# Altium schematic symbol library CSC.schlib: 11 symbols
Pins are listed as number, name and electrical type; pins without a type are passive.

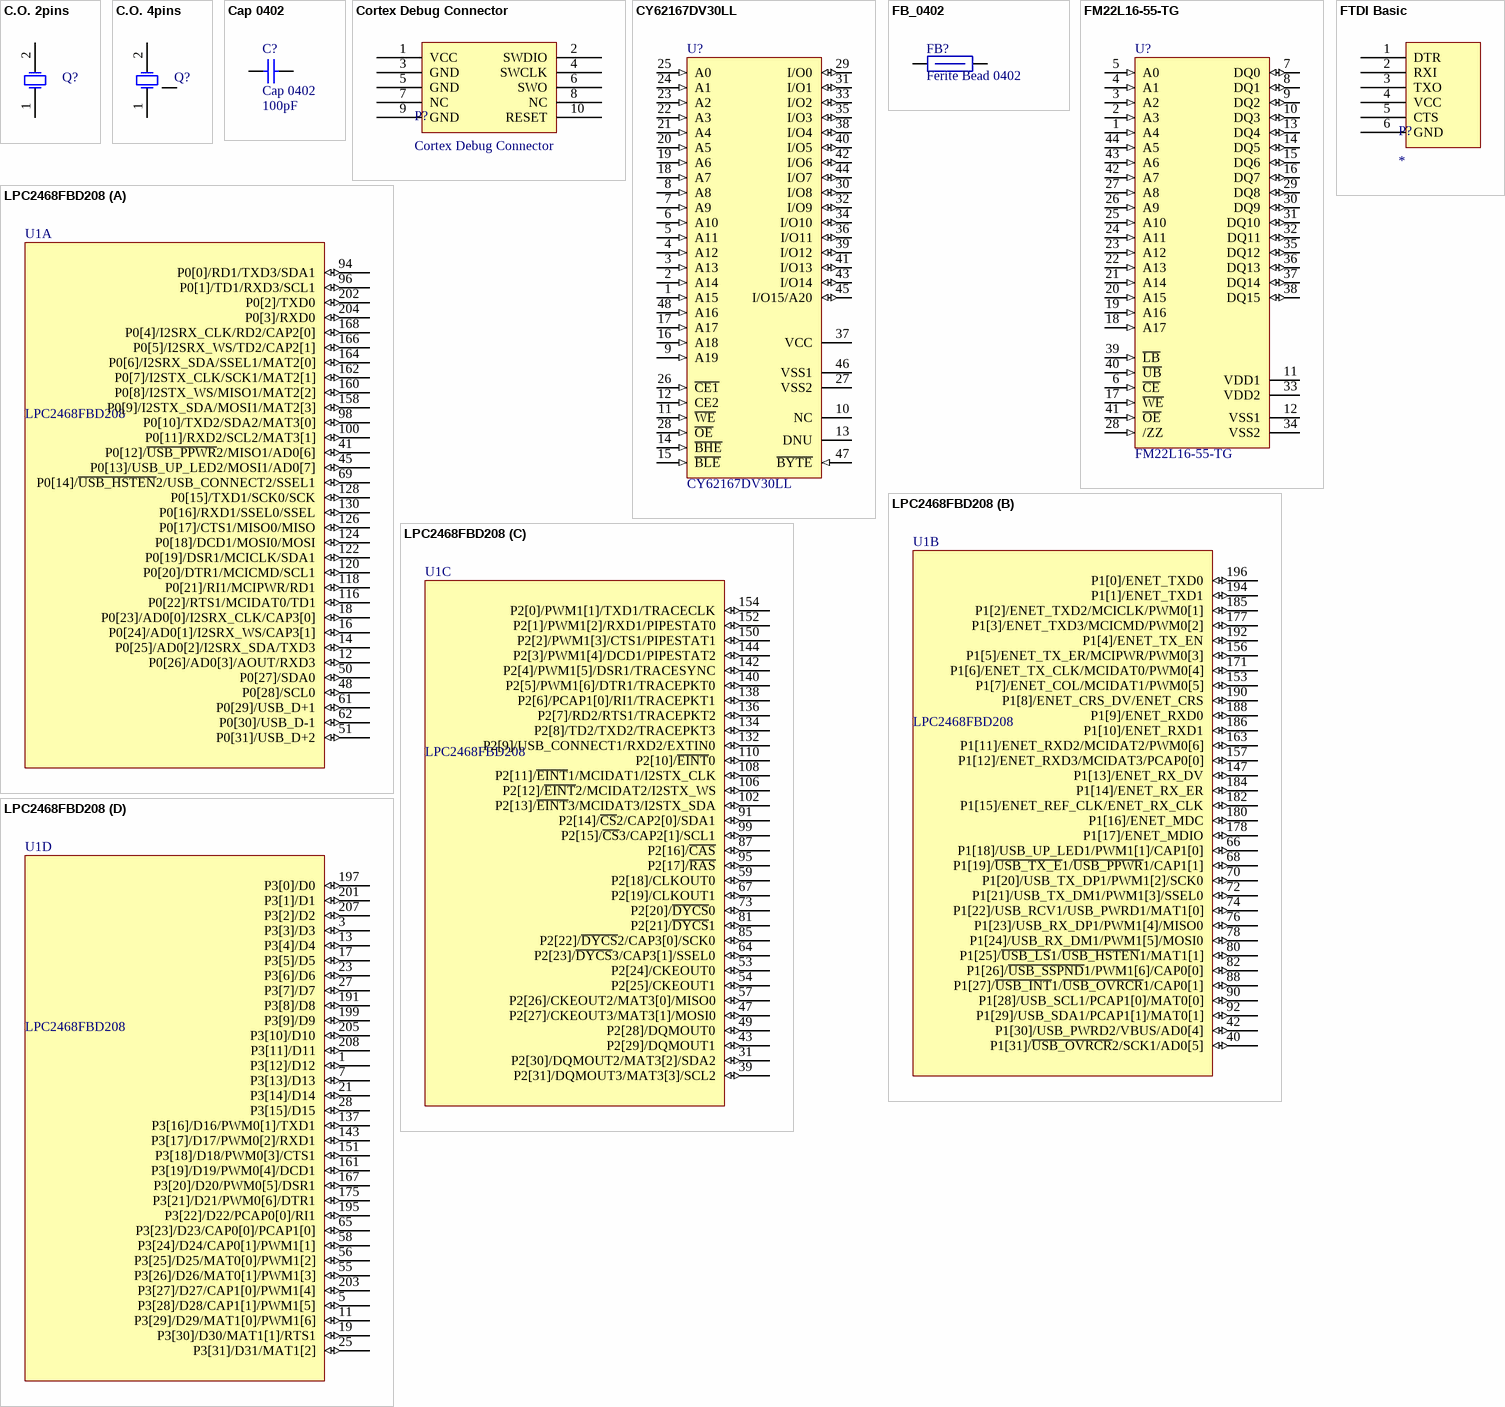
[diagram p0: symbols C.O. 2pins to LPC2468FBD208]

## C.O. 2pins
designator Q?, comment Crystal Oscilator  (value not drawn)
Crystal Oscillator; Value: 12.000MHz; Published: 8-Jun-2000; LatestRevisionDate: 17-Jul-2002; LatestRevisionNote: Re-released for DXP Platform.; PackageReference: R38; Publisher: Altium Limited
simulation model XTAL (Spice Subcircuit)
footprint 9H T10
pins: 1 OSC1, 2 OSC2

## C.O. 4pins
designator Q?, comment Crystal Oscilator  (value not drawn)
Crystal Oscillator; Value: 12.000MHz; Published: 8-Jun-2000; LatestRevisionDate: 17-Jul-2002; LatestRevisionNote: Re-released for DXP Platform.; PackageReference: R38; Publisher: Altium Limited
simulation model XTAL (Spice Subcircuit)
footprint 7M
pins: 1 OSC1, 2 OSC2, 3

## Cap 0402
designator C?  value 100pF
Capacitor; Published: 8-Jun-2000; LatestRevisionDate: 17-Jul-2002; LatestRevisionNote: Re-released for DXP Platform.; PackageReference: RAD-0.3; Publisher: Altium Limited; PackageDescription: Radial Cap, Thru-Hole; 2 Leads; 0.3 in Pin Spacing
simulation model CAP (Capacitor)
signal-integrity model Cap
footprint CAPC1005X06L (Chip Capacitor, 2-Leads, Body 1.0x0.5mm, IPC High Density)
pins: 1, 2

## Cortex Debug Connector
designator P?
Mates with FFSD-05-D-12.00-01-N
footprint FTSH-105-01-L-DV-TR (http://www.samtec.com/ftppub/cpdf/FTSHMKT1.PDF)
pins: 1 VCC, 2 SWDIO, 3 GND, 4 SWCLK, 5 GND, 6 SWO, 7 NC, 8 NC, 9 GND, 10 RESET

## CY62167DV30LL
designator U?
16-Mbit (1M x 16) Static RAM; ColumnAddress: A0-A9; Publisher: Altium Limited; ComponentLink1Description: Manufacturer Link; ComponentLink2Description: Datasheet
footprint TSSOP50P2000X120-48L (TSSOP, 48-Leads, Body 12.0x18.4mm (max), Pitch 0.50mm, IPC High Density)
pins: 1 A15 (in) "System clock; Active on the positive going edge.", 2 A14 (in) "Bank select address", 3 A13 (in) "Bank select address", 4 A12 (in) "Row/column addresses are multiplexed on the same pins.", 5 A11 (in) "Row/column addresses are multiplexed on the same pins.", 6 A10 (in) "Row/column addresses are multiplexed on the same pins.", 7 A9 (in) "Row/column addresses are multiplexed on the same pins.", 8 A8 (in) "Row/column addresses are multiplexed on the same pins.", 9 A19 (in) "No connection/reserved for future use.", 10 NC "No connection/reserved for future use.", 11 ~{WE} (in) "Write enable; Enables write operation and row precharge.", 12 CE2 (in) "Clock enable; Masks system clock to freeze operation from the next clock cycle.", 13 DNU "No connection/reserved for future use.", 14 ~{BHE} (in) "Column address strobe; Latches column addresses on the positive going edge of the CLK with CAS low.", 15 ~{BLE} (in) "Row address strobe; Latches row addresses on the positive going edge of the CLK with RAS low.", 16 A18 (in) "No connection/reserved for future use.", 17 A17 (in) "No connection/reserved for future use.", 18 A7 (in) "Row/column addresses are multiplexed on the same pins.", 19 A6 (in) "Row/column addresses are multiplexed on the same pins.", 20 A5 (in) "Row/column addresses are multiplexed on the same pins.", 21 A4 (in) "Row/column addresses are multiplexed on the same pins.", 22 A3 (in) "Row/column addresses are multiplexed on the same pins.", 23 A2 (in) "Row/column addresses are multiplexed on the same pins.", 24 A1 (in) "Row/column addresses are multiplexed on the same pins.", 25 A0 (in) "Row/column addresses are multiplexed on the same pins.", 26 ~{CE1} (in) "Chip select; Disables or enables device operation.", 27 VSS2 (power) "Ground for the input buffers and the core logic.", 28 ~{OE} (in) "System clock; Active on the positive going edge.", 29 I/O0 (io) "Data inputs/outputs are multiplexed on the same pins.", 30 I/O8 (io) "Data inputs/outputs are multiplexed on the same pins.", 31 I/O1 (io) "Data inputs/outputs are multiplexed on the same pins.", 32 I/O9 (io) "Data inputs/outputs are multiplexed on the same pins.", 33 I/O2 (io) "Data inputs/outputs are multiplexed on the same pins.", 34 I/O10 (io) "Data inputs/outputs are multiplexed on the same pins.", 35 I/O3 (io) "Data inputs/outputs are multiplexed on the same pins.", 36 I/O11 (io) "Data inputs/outputs are multiplexed on the same pins.", 37 VCC (power) "Power for the input buffers and the core logic.", 38 I/O4 (io) "Data inputs/outputs are multiplexed on the same pins.", 39 I/O12 (io) "Data inputs/outputs are multiplexed on the same pins.", 40 I/O5 (io) "Data inputs/outputs are multiplexed on the same pins.", 41 I/O13 (io) "Data inputs/outputs are multiplexed on the same pins.", 42 I/O6 (io) "Data inputs/outputs are multiplexed on the same pins.", 43 I/O14 (io) "Data inputs/outputs are multiplexed on the same pins.", 44 I/O7 (io) "Data inputs/outputs are multiplexed on the same pins.", 45 I/O15/A20 (io) "Data inputs/outputs are multiplexed on the same pins.", 46 VSS1 (power) "Ground for the input buffers and the core logic.", 47 ~{BYTE} (in) "Column address strobe; Latches column addresses on the positive going edge of the CLK with CAS low.", 48 A16 (in) "Clock enable; Masks system clock to freeze operation from the next clock cycle."

## FB_0402
designator FB?, comment Ferite Bead 0402
Ferite Bead : 0402; Published: 8-Jun-2000; LatestRevisionDate: 29-May-2009; LatestRevisionNote: IPC-7351 Footprint Added.; PackageReference: J1-0603; Publisher: Altium Limited; PackageDescription: Chip Resistor
simulation model RESISTOR (Resistor)
footprint INDC1005X06L (Chip Inductor, 2-Leads, Body 1.0x0.5mm, IPC High Density)
pins: 1, 2

## FM22L16-55-TG
designator U?
FRAM, 2MB, 3V, 60NS, 44TSOP2; ColumnAddress: A0-A9; LatestRevisionDate: 13-Apr-2006; DatasheetVersion: rev1.1, Feb-2004; PackageReference: TSOP2-44_M; PackageDescription: 44-Pin Small Outline Package 0.8 mm Pitch; ComponentLink1Description: Manufacturer Link; ComponentLink2Description: Datasheet
footprint TSOP80P1180X120-44L (TSOP, 44-Leads, Body 18.4x10.2mm (max), Pitch 0.80mm, IPC High Density)
pins: 1 A4 (in) "Row/column addresses are multiplexed on the same pins.", 2 A3 (in) "Row/column addresses are multiplexed on the same pins.", 3 A2 (in) "Row/column addresses are multiplexed on the same pins.", 4 A1 (in) "Row/column addresses are multiplexed on the same pins.", 5 A0 (in) "Row/column addresses are multiplexed on the same pins.", 6 ~{CE} (in) "Chip select; Disables or enables device operation.", 7 DQ0 (io) "Data inputs/outputs are multiplexed on the same pins.", 8 DQ1 (io) "Data inputs/outputs are multiplexed on the same pins.", 9 DQ2 (io) "Data inputs/outputs are multiplexed on the same pins.", 10 DQ3 (io) "Data inputs/outputs are multiplexed on the same pins.", 11 VDD1 (power) "Power for the input buffers and the core logic.", 12 VSS1 (power) "Ground for the input buffers and the core logic.", 13 DQ4 (io) "Data inputs/outputs are multiplexed on the same pins.", 14 DQ5 (io) "Data inputs/outputs are multiplexed on the same pins.", 15 DQ6 (io) "Data inputs/outputs are multiplexed on the same pins.", 16 DQ7 (io) "Data inputs/outputs are multiplexed on the same pins.", 17 ~{WE} (in) "Write enable; Enables write operation and row precharge.", 18 A17 (in) "No connection/reserved for future use.", 19 A16 (in) "Clock enable; Masks system clock to freeze operation from the next clock cycle.", 20 A15 (in) "System clock; Active on the positive going edge.", 21 A14 (in) "Bank select address", 22 A13 (in) "Bank select address", 23 A12 (in) "Row/column addresses are multiplexed on the same pins.", 24 A11 (in) "Row/column addresses are multiplexed on the same pins.", 25 A10 (in) "Row/column addresses are multiplexed on the same pins.", 26 A9 (in) "Row/column addresses are multiplexed on the same pins.", 27 A8 (in) "Row/column addresses are multiplexed on the same pins.", 28 /ZZ (in) "Row address strobe; Latches row addresses on the positive going edge of the CLK with RAS low.", 29 DQ8 (io) "Data inputs/outputs are multiplexed on the same pins.", 30 DQ9 (io) "Data inputs/outputs are multiplexed on the same pins.", 31 DQ10 (io) "Data inputs/outputs are multiplexed on the same pins.", 32 DQ11 (io) "Data inputs/outputs are multiplexed on the same pins.", 33 VDD2 (power) "Power for the input buffers and the core logic.", 34 VSS2 (power) "Ground for the input buffers and the core logic.", 35 DQ12 (io) "Data inputs/outputs are multiplexed on the same pins.", 36 DQ13 (io) "Data inputs/outputs are multiplexed on the same pins.", 37 DQ14 (io) "Data inputs/outputs are multiplexed on the same pins.", 38 DQ15 (io) "Data inputs/outputs are multiplexed on the same pins.", 39 ~{LB} (in) "Data input/output mask for DQ0-DQ7", 40 ~{UB} (in) "Data input/output mask for DQ8-DQ15", 41 ~{OE} (in) "Column address strobe; Latches column addresses on the positive going edge of the CLK with CAS low.", 42 A7 (in) "Row/column addresses are multiplexed on the same pins.", 43 A6 (in) "Row/column addresses are multiplexed on the same pins.", 44 A5 (in) "Row/column addresses are multiplexed on the same pins."

## FTDI Basic
designator P?
footprint FTDI BASIC
pins: 1 DTR, 2 RXI, 3 TXO, 4 VCC, 5 CTS, 6 GND

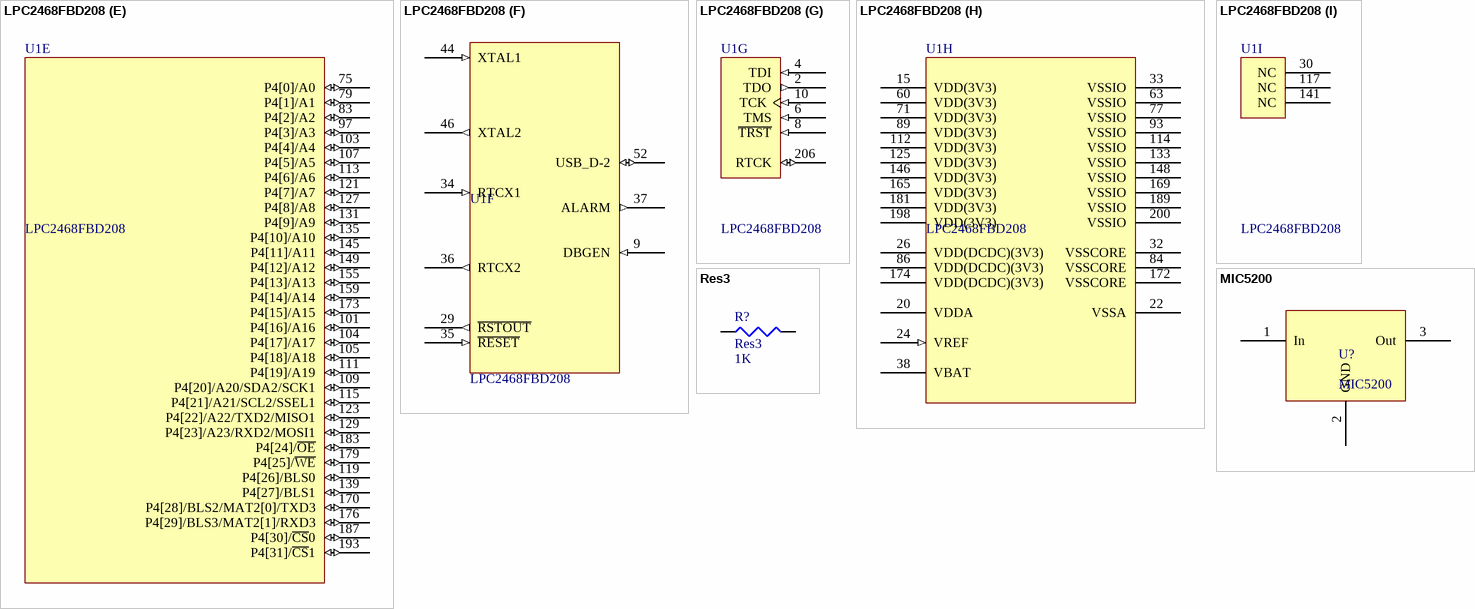
[diagram p1: symbols LPC2468FBD208 to Res3]

## LPC2468FBD208
designator U1
ARM7 16/32-Bit Microcontroller, 512KB Flash, 98KB RAM, 208-Lead LQFP; Code_IEC: 136E30; Published: 17-Aug-2007; DatasheetVersion: rev.01, Jul-2007; PackageVersion: Feb-2003; PackageReference: SOT459-1; Publisher: Altium Limited; PackageDescription: 208-Pin Plastic Low Profile Quad Flat Pack, LQFP208; Code_JEDEC: MS-026; ComponentLink1Description: Manufacturer Link; ComponentLink1URL: http://www.nxp.com/; ComponentLink2Description: Datasheet; ComponentLink2URL: http://www.standardics.nxp.com/products/lpc2000/datasheet/lpc2468.pdf
footprint TSQFP50P3000X3000X160-208L (TSQFP, 208-Leads, Body 30.1x30.1mm (max), Pitch 0.50mm, IPC High Density)
part A pins: 12 P0[26]/AD0[3]/AOUT/RXD3 (io), 14 P0[25]/AD0[2]/I2SRX_SDA/TXD3 (io), 16 P0[24]/AD0[1]/I2SRX_WS/CAP3[1] (io), 18 P0[23]/AD0[0]/I2SRX_CLK/CAP3[0] (io), 41 P0[12]/~{USB_PPWR}2/MISO1/AD0[6] (io), 45 P0[13]/USB_UP_LED2/MOSI1/AD0[7] (io), 48 P0[28]/SCL0 (io), 50 P0[27]/SDA0 (io), 51 P0[31]/USB_D+2 (io), 61 P0[29]/USB_D+1 (io), 62 P0[30]/USB_D-1 (io), 69 P0[14]/~{USB_HSTEN}2/USB_CONNECT2/SSEL1 (io), 94 P0[0]/RD1/TXD3/SDA1 (io), 96 P0[1]/TD1/RXD3/SCL1 (io), 98 P0[10]/TXD2/SDA2/MAT3[0] (io), 100 P0[11]/RXD2/SCL2/MAT3[1] (io), 116 P0[22]/RTS1/MCIDAT0/TD1 (io), 118 P0[21]/RI1/MCIPWR/RD1 (io), 120 P0[20]/DTR1/MCICMD/SCL1 (io), 122 P0[19]/DSR1/MCICLK/SDA1 (io), 124 P0[18]/DCD1/MOSI0/MOSI (io), 126 P0[17]/CTS1/MISO0/MISO (io), 128 P0[15]/TXD1/SCK0/SCK (io), 130 P0[16]/RXD1/SSEL0/SSEL (io), 158 P0[9]/I2STX_SDA/MOSI1/MAT2[3] (io), 160 P0[8]/I2STX_WS/MISO1/MAT2[2] (io), 162 P0[7]/I2STX_CLK/SCK1/MAT2[1] (io), 164 P0[6]/I2SRX_SDA/SSEL1/MAT2[0] (io), 166 P0[5]/I2SRX_WS/TD2/CAP2[1] (io), 168 P0[4]/I2SRX_CLK/RD2/CAP2[0] (io), 202 P0[2]/TXD0 (io), 204 P0[3]/RXD0 (io)
part B pins: 40 P1[31]/~{USB_OVRCR}2/SCK1/AD0[5] (io), 42 P1[30]/USB_PWRD2/VBUS/AD0[4] (io), 66 P1[18]/USB_UP_LED1/PWM1[1]/CAP1[0] (io), 68 P1[19]/~{USB_TX_E}1/~{USB_PPWR}1/CAP1[1] (io), 70 P1[20]/USB_TX_DP1/PWM1[2]/SCK0 (io), 72 P1[21]/USB_TX_DM1/PWM1[3]/SSEL0 (io), 74 P1[22]/USB_RCV1/USB_PWRD1/MAT1[0] (io), 76 P1[23]/USB_RX_DP1/PWM1[4]/MISO0 (io), 78 P1[24]/USB_RX_DM1/PWM1[5]/MOSI0 (io), 80 P1[25]/~{USB_LS}1/~{USB_HSTEN}1/MAT1[1] (io), 82 P1[26]/~{USB_SSPND}1/PWM1[6]/CAP0[0] (io), 88 P1[27]/~{USB_INT}1/~{USB_OVRCR}1/CAP0[1] (io), 90 P1[28]/USB_SCL1/PCAP1[0]/MAT0[0] (io), 92 P1[29]/USB_SDA1/PCAP1[1]/MAT0[1] (io), 147 P1[13]/ENET_RX_DV (io), 153 P1[7]/ENET_COL/MCIDAT1/PWM0[5] (io), 156 P1[5]/ENET_TX_ER/MCIPWR/PWM0[3] (io), 157 P1[12]/ENET_RXD3/MCIDAT3/PCAP0[0] (io), 163 P1[11]/ENET_RXD2/MCIDAT2/PWM0[6] (io), 171 P1[6]/ENET_TX_CLK/MCIDAT0/PWM0[4] (io), 177 P1[3]/ENET_TXD3/MCICMD/PWM0[2] (io), 178 P1[17]/ENET_MDIO (io), 180 P1[16]/ENET_MDC (io), 182 P1[15]/ENET_REF_CLK/ENET_RX_CLK (io), 184 P1[14]/ENET_RX_ER (io), 185 P1[2]/ENET_TXD2/MCICLK/PWM0[1] (io), 186 P1[10]/ENET_RXD1 (io), 188 P1[9]/ENET_RXD0 (io), 190 P1[8]/ENET_CRS_DV/ENET_CRS (io), 192 P1[4]/ENET_TX_EN (io), 194 P1[1]/ENET_TXD1 (io), 196 P1[0]/ENET_TXD0 (io)
part C pins: 31 P2[30]/DQMOUT2/MAT3[2]/SDA2 (io), 39 P2[31]/DQMOUT3/MAT3[3]/SCL2 (io), 43 P2[29]/DQMOUT1 (io), 47 P2[27]/CKEOUT3/MAT3[1]/MOSI0 (io), 49 P2[28]/DQMOUT0 (io), 53 P2[24]/CKEOUT0 (io), 54 P2[25]/CKEOUT1 (io), 57 P2[26]/CKEOUT2/MAT3[0]/MISO0 (io), 59 P2[18]/CLKOUT0 (io), 64 P2[23]/~{DYCS}3/CAP3[1]/SSEL0 (io), 67 P2[19]/CLKOUT1 (io), 73 P2[20]/~{DYCS}0 (io), 81 P2[21]/~{DYCS}1 (io), 85 P2[22]/~{DYCS}2/CAP3[0]/SCK0 (io), 87 P2[16]/~{CAS} (io), 91 P2[14]/~{CS}2/CAP2[0]/SDA1 (io), 95 P2[17]/~{RAS} (io), 99 P2[15]/~{CS}3/CAP2[1]/SCL1 (io), 102 P2[13]/~{EINT}3/MCIDAT3/I2STX_SDA (io), 106 P2[12]/~{EINT}2/MCIDAT2/I2STX_WS (io), 108 P2[11]/~{EINT}1/MCIDAT1/I2STX_CLK (io), 110 P2[10]/~{EINT}0 (io), 132 P2[9]/USB_CONNECT1/RXD2/EXTIN0 (io), 134 P2[8]/TD2/TXD2/TRACEPKT3 (io), 136 P2[7]/RD2/RTS1/TRACEPKT2 (io), 138 P2[6]/PCAP1[0]/RI1/TRACEPKT1 (io), 140 P2[5]/PWM1[6]/DTR1/TRACEPKT0 (io), 142 P2[4]/PWM1[5]/DSR1/TRACESYNC (io), 144 P2[3]/PWM1[4]/DCD1/PIPESTAT2 (io), 150 P2[2]/PWM1[3]/CTS1/PIPESTAT1 (io), 152 P2[1]/PWM1[2]/RXD1/PIPESTAT0 (io), 154 P2[0]/PWM1[1]/TXD1/TRACECLK (io)
part D pins: 1 P3[12]/D12 (io), 3 P3[3]/D3 (io), 5 P3[28]/D28/CAP1[1]/PWM1[5] (io), 7 P3[13]/D13 (io), 11 P3[29]/D29/MAT1[0]/PWM1[6] (io), 13 P3[4]/D4 (io), 17 P3[5]/D5 (io), 19 P3[30]/D30/MAT1[1]/RTS1 (io), 21 P3[14]/D14 (io), 23 P3[6]/D6 (io), 25 P3[31]/D31/MAT1[2] (io), 27 P3[7]/D7 (io), 28 P3[15]/D15 (io), 55 P3[26]/D26/MAT0[1]/PWM1[3] (io), 56 P3[25]/D25/MAT0[0]/PWM1[2] (io), 58 P3[24]/D24/CAP0[1]/PWM1[1] (io), 65 P3[23]/D23/CAP0[0]/PCAP1[0] (io), 137 P3[16]/D16/PWM0[1]/TXD1 (io), 143 P3[17]/D17/PWM0[2]/RXD1 (io), 151 P3[18]/D18/PWM0[3]/CTS1 (io), 161 P3[19]/D19/PWM0[4]/DCD1 (io), 167 P3[20]/D20/PWM0[5]/DSR1 (io), 175 P3[21]/D21/PWM0[6]/DTR1 (io), 191 P3[8]/D8 (io), 195 P3[22]/D22/PCAP0[0]/RI1 (io), 197 P3[0]/D0 (io), 199 P3[9]/D9 (io), 201 P3[1]/D1 (io), 203 P3[27]/D27/CAP1[0]/PWM1[4] (io), 205 P3[10]/D10 (io), 207 P3[2]/D2 (io), 208 P3[11]/D11 (io)
part E pins: 75 P4[0]/A0 (io), 79 P4[1]/A1 (io), 83 P4[2]/A2 (io), 97 P4[3]/A3 (io), 101 P4[16]/A16 (io), 103 P4[4]/A4 (io), 104 P4[17]/A17 (io), 105 P4[18]/A18 (io), 107 P4[5]/A5 (io), 109 P4[20]/A20/SDA2/SCK1 (io), 111 P4[19]/A19 (io), 113 P4[6]/A6 (io), 115 P4[21]/A21/SCL2/SSEL1 (io), 119 P4[26]/BLS0 (io), 121 P4[7]/A7 (io), 123 P4[22]/A22/TXD2/MISO1 (io), 127 P4[8]/A8 (io), 129 P4[23]/A23/RXD2/MOSI1 (io), 131 P4[9]/A9 (io), 135 P4[10]/A10 (io), 139 P4[27]/BLS1 (io), 145 P4[11]/A11 (io), 149 P4[12]/A12 (io), 155 P4[13]/A13 (io), 159 P4[14]/A14 (io), 170 P4[28]/BLS2/MAT2[0]/TXD3 (io), 173 P4[15]/A15 (io), 176 P4[29]/BLS3/MAT2[1]/RXD3 (io), 179 P4[25]/~{WE} (io), 183 P4[24]/~{OE} (io), 187 P4[30]/~{CS}0 (io), 193 P4[31]/~{CS}1 (io)
part F pins: 9 DBGEN (in), 29 ~{RSTOUT} (out), 34 RTCX1 (in), 35 ~{RESET} (in), 36 RTCX2 (out), 37 ALARM (out), 44 XTAL1 (in), 46 XTAL2 (out), 52 USB_D-2 (io)
part G pins: 2 TDO (out), 4 TDI (in), 6 TMS (in), 8 ~{TRST} (in), 10 TCK (in), 206 RTCK (io)
part H pins: 15 VDD(3V3) (power), 20 VDDA (power), 22 VSSA (power), 24 VREF (in), 26 VDD(DCDC)(3V3) (power), 32 VSSCORE (power), 33 VSSIO (power), 38 VBAT (power), 60 VDD(3V3) (power), 63 VSSIO (power), 71 VDD(3V3) (power), 77 VSSIO (power), 84 VSSCORE (power), 86 VDD(DCDC)(3V3) (power), 89 VDD(3V3) (power), 93 VSSIO (power), 112 VDD(3V3) (power), 114 VSSIO (power), 125 VDD(3V3) (power), 133 VSSIO (power), 146 VDD(3V3) (power), 148 VSSIO (power), 165 VDD(3V3) (power), 169 VSSIO (power), 172 VSSCORE (power), 174 VDD(DCDC)(3V3) (power), 181 VDD(3V3) (power), 189 VSSIO (power), 198 VDD(3V3) (power), 200 VSSIO (power)
part I pins: 30 NC, 117 NC, 141 NC

## MIC5200
designator U?
footprint SOT230P710X170-4L (SOT223, 4-Leads, Body 6.7x7.5mm (max), Pitch 2.30mm, IPC High Density)
pins: 1 In (power), 2 GND (power), 3 Out (power)

## Res3
designator R?  value 1K
Resistor; Published: 8-Jun-2000; LatestRevisionDate: 29-May-2009; LatestRevisionNote: IPC-7351 Footprint Added.; PackageReference: J1-0603; Publisher: Altium Limited; PackageDescription: Chip Resistor
simulation model RESISTOR (Resistor)
footprint RESC1005X06L (Chip Resistor, 2-Leads, Body 1.0x0.5mm, IPC High Density)
pins: 1, 2